# EAGLE library part AK130/10 (library PTR_AK130)
ANSCHLUSSKLEMME AK130 (10POLIG)
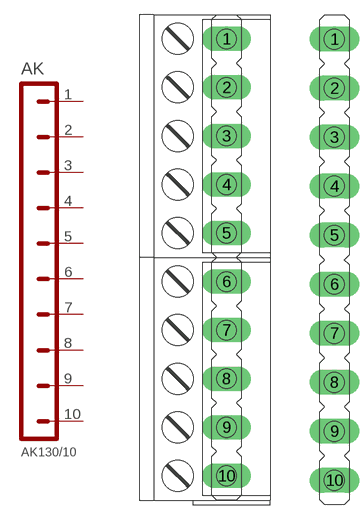
[diagram p4: symbol with the pads of AK10; footprints AK10, STL10]

Designator prefix AK

## AK130/10  [AK10]
1  P$1
2  P$2
3  P$3
4  P$4
5  P$5
6  P$6
7  P$7
8  P$8
9  P$9
10  P$10

## AK130/10_STL  [STL10]
Pads as for AK10

## Footprint AK10 (pad centres in mm)
AK130 (10POLIG) 2x AK130/5-5.0-GRAU STL130/24-5.0-V-SCHWARZ
drill 1.5 pad 2.54 long: 1 0,22.5; 2 0,17.5; 3 0,12.5; 4 0,7.5; 5 0,2.5; 6 0,-2.5; 7 0,-7.5; 8 0,-12.5; 9 0,-17.5; 10 0,-22.5

## Footprint STL10 (pad centres in mm)
STL130 (10POLIG) STL130/24-5.0-V-SCHWARZ
drill 1.5 pad 2.54 long: 1 0,22.5; 2 0,17.5; 3 0,12.5; 4 0,7.5; 5 0,2.5; 6 0,-2.5; 7 0,-7.5; 8 0,-12.5; 9 0,-17.5; 10 0,-22.5